# EAGLE library part TLV320DAC3120IRHBR (library Controller Board)
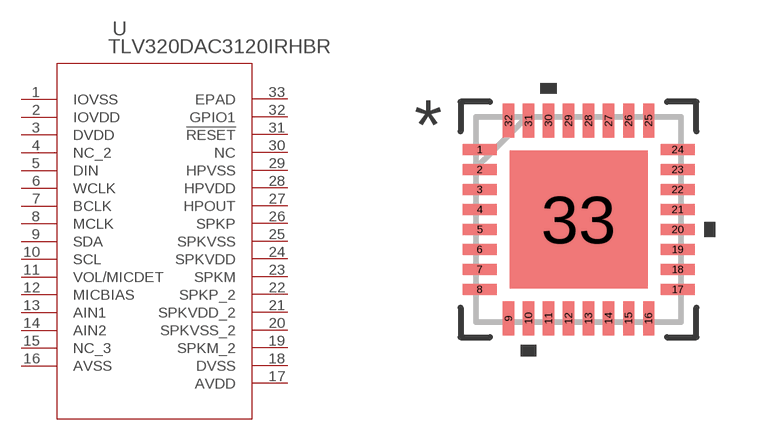
[diagram p0: symbol with the pads of RHB32_3P45X3P45; footprint RHB32_3P45X3P45]

Designator prefix -

## TLV320DAC3120IRHBR (MANUFACTURER_PART_NUMBER: tlv320dac3120_rhb_32; VENDOR: Texas Instruments)  [RHB32_3P45X3P45]
1  IOVSS  pwr
2  IOVDD  pwr
3  DVDD  pwr
4  NC_2  pas
5  DIN  in
6  WCLK
7  BCLK
8  MCLK  in
9  SDA
10  SCL
11  VOL/MICDET  in
12  MICBIAS  pas
13  AIN1  in
14  AIN2  in
15  NC_3  pas
16  AVSS  pwr
17  AVDD  pwr
18  DVSS  pwr
19  SPKM_2  out
20  SPKVSS_2  pwr
21  SPKVDD_2  pwr
22  SPKP_2  out
23  SPKM  out
24  SPKVDD  pwr
25  SPKVSS  pwr
26  SPKP  out
27  HPOUT  out
28  HPVDD  pwr
29  HPVSS  pwr
30  NC  pas
31  !RESET  in
32  GPIO1
33  EPAD  pas

## Footprint RHB32_3P45X3P45 (pad centres in mm)
smd 0.85 x 0.28: 1 -2.475,1.75; 2 -2.475,1.25; 3 -2.475,0.75; 4 -2.475,0.25; 5 -2.475,-0.25; 6 -2.475,-0.75; 7 -2.475,-1.25; 8 -2.475,-1.75; 17 2.475,-1.75; 18 2.475,-1.25; 19 2.475,-0.75; 20 2.475,-0.25; 21 2.475,0.25; 22 2.475,0.75; 23 2.475,1.25; 24 2.475,1.75
smd 0.28 x 0.85: 9 -1.75,-2.475; 10 -1.25,-2.475; 11 -0.75,-2.475; 12 -0.25,-2.475; 13 0.25,-2.475; 14 0.75,-2.475; 15 1.25,-2.475; 16 1.75,-2.475; 25 1.75,2.475; 26 1.25,2.475; 27 0.75,2.475; 28 0.25,2.475; 29 -0.25,2.475; 30 -0.75,2.475; 31 -1.25,2.475; 32 -1.75,2.475
smd 3.45 x 3.45: 33 0,0